# Altium footprint library UWRT_Footprint_Library_2019.PcbLib: 53 footprints (part 1 of 4)
Each footprint in its own frame and in the unit in brackets; x right, y up, seen from the top. Pads: shape width x height; smd on the part's side, far side on the other; paste and mask are expansions set on the pad; w line width, h text height; cw(c..) or ccw(c..) is an arc to the next point about the centre after c.
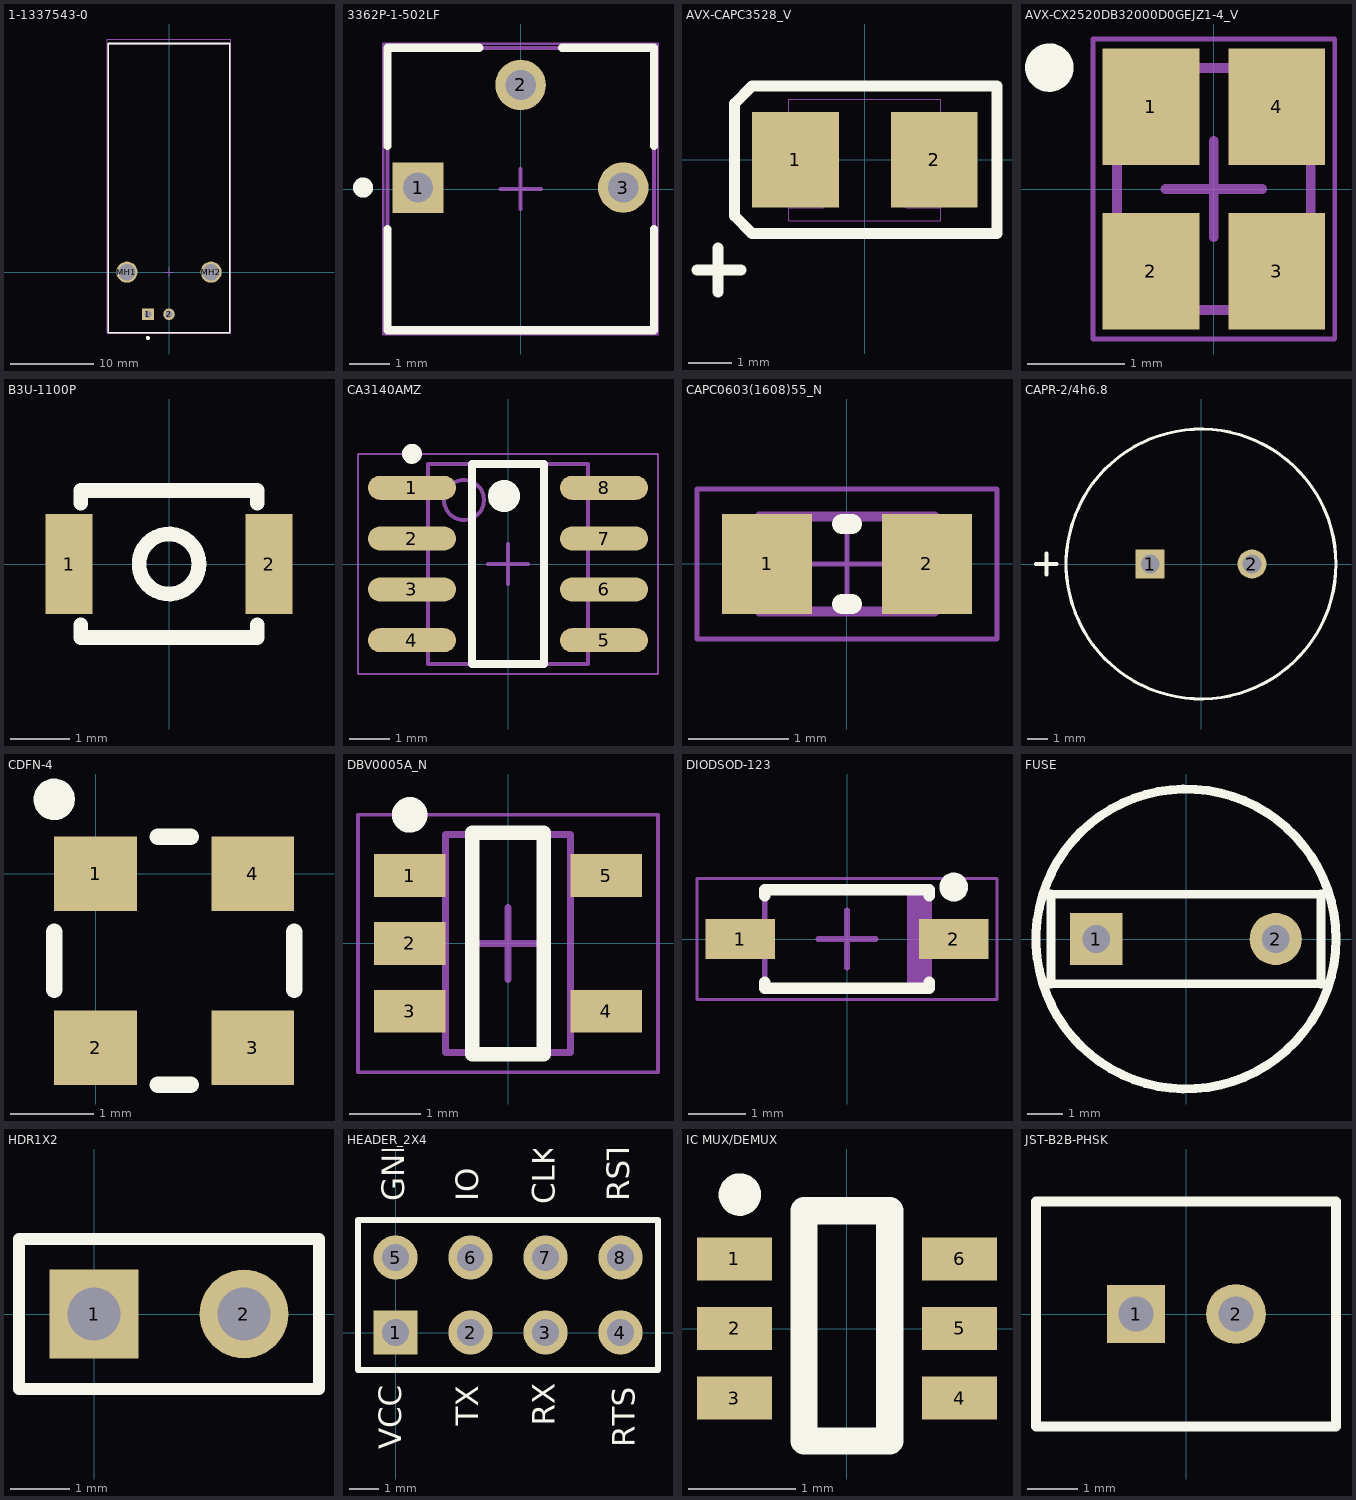
[diagram p0: the footprints below, top view; thin cyan lines are the x and y axes]

## 1-1337543-0 [mm]
pads (4):
  rect 1.4x1.4 hole 0.89: 1(-2.54,-5.08)
  round 1.4 hole 0.89: 2(0,-5.08)
  round 2.55 hole 2.01: MH1(-5.08,0) MH2(5.08,0)
Top Overlay:
  circle w0.25: c-2.54,-7.95 r0.125
  lines w0.2: -7.35,-7.3 -7.35,27.6 7.35,27.6 7.35,-7.3 -7.35,-7.3
Mechanical 13:
  lines w0.1: -7.35,-7.3 7.35,-7.3 7.35,27.6 -7.35,27.6 -7.35,-7.3
Mechanical 15:
  lines w0.05: -7.45,-7.4 7.45,-7.4 7.45,28.15 -7.45,28.15 -7.45,-7.4
  lines w0.1: -0.5,0 0.5,0 ; 0,-0.5 0,0.5
3D body "c-1-1337543-0-e-3d.stp": height 15.8, standoff -4.3, extent -7.35,-7.1 7.35,28.05

## 3362P-1-502LF [mm]
pads (3):
  rect 1.25x1.25 hole 0.75: 1(-2.54,0.035)
  round 1.25 hole 0.75: 2(0,2.575) 3(2.54,0.035)
Top Overlay:
  circle w0.25: c-3.9,0.035 r0.125
  lines w0.2: -3.3,-0.99 -3.3,-3.495 3.3,-3.495 3.3,-0.99 ; -3.3,1.06 -3.3,3.495 -1.025,3.495 ; 1.025,3.495 3.3,3.495 3.3,1.06
Mechanical 13:
  lines w0.1: -3.3,-3.495 3.3,-3.495 3.3,3.495 -3.3,3.495 -3.3,-3.495
Mechanical 15:
  lines w0.05: -3.4,-3.595 -3.4,3.595 3.4,3.595 3.4,-3.595 -3.4,-3.595
  lines w0.1: -0.5,0 0.5,0 ; 0,-0.5 0,0.5
3D body: height 4.95, standoff 0, extent -3.299,-3.494 3.299,3.494

## AVX-CAPC3528_V [mm] "SMT Capacitor, 2 Leads, Body 3.5x2.8mm"
pads (2):
  rect 2x2.2 smd: 1(-1.6,0) 2(1.6,0)
Top Overlay:
  lines w0.254: -3.87,-2.54 -2.854,-2.54 ; -3.381,-3.048 -3.381,-2.032 ; -3,-1.3 -3,1.3 -2.6,1.7 3.05,1.7 3.05,-1.7 -2.6,-1.7 -3,-1.3
Mechanical 7:
  lines w0.025: -1.748,-1.404 1.752,-1.404 1.752,1.396 -1.748,1.396 ; -1.748,-1.104 -0.948,-1.104 -0.948,1.096 -1.748,1.096 ; -1.748,-1.404 -1.748,1.396 ; 1.752,-1.104 0.952,-1.104 0.952,1.096 1.752,1.096
  text ".Comment" at -1.7,-2.2 h0.5
  text ".Designator" at -1.8,1.8 h0.5
3D body: height 1.9, standoff 0, extent -1.704,-1.539 1.763,1.537
3D body: height 0.3, standoff 0, extent 1.578,-0.658 1.803,0.768
3D body: height 0.3, standoff 0, extent -1.793,-0.665 -1.568,0.824

## AVX-CX2520DB32000D0GEJZ1-4_V [mm] "Hand Drawn, 4-Leads,Body 2.5x2mm"
height 0.55
pads (4):
  rect 1x1.2 smd: 1(-0.65,0.85) 2(-0.65,-0.85) 3(0.65,-0.85) 4(0.65,0.85)
Top Overlay:
  circle w0.25: c-1.7,1.254 r0.125
Mechanical 13:
  lines w0.1: -1,-1.25 1,-1.25 1,1.25 -1,1.25 -1,-1.25
Mechanical 15:
  lines w0.05: -1.25,-1.55 1.25,-1.55 1.25,1.55 -1.25,1.55 -1.25,-1.55
  lines w0.1: -0.5,0 0.5,0 ; 0,-0.5 0,0.5
3D body: height 0.55, standoff 0, extent -1,-1.25 1,1.25

## B3U-1100P [mm] "TACTILE SWITCH GREY"
pads (2):
  rect 0.8x1.7 smd: 1(-1.7,0) 2(1.7,0)
Top Overlay:
  circle w0.25: c0,0 r0.51
  lines w0.254: -1.5,-1.04 -1.5,-1.25 1.5,-1.25 1.5,-1.04 ; -1.5,1.04 -1.5,1.25 1.5,1.25 1.5,1.04

## CA3140AMZ [mm]
pads (8):
  oval 2.2x0.6 smd: 1(-2.4,1.905) 2(-2.4,0.635) 3(-2.4,-0.635) 4(-2.4,-1.905) 5(2.4,-1.905) 6(2.4,-0.635) 7(2.4,0.635) 8(2.4,1.905)
Top Overlay:
  circle w0.25: c-2.4,2.755 r0.125
  circle w0.4: c-0.1,1.7 r0.2
  lines w0.2: -0.9,-2.5 -0.9,2.5 0.9,2.5 0.9,-2.5 -0.9,-2.5
Mechanical 13:
  circle w0.1: c-1.1,1.6 r0.5
  lines w0.1: -2,-2.5 -2,2.5 2,2.5 2,-2.5 -2,-2.5
Mechanical 15:
  lines w0.05: -3.75,-2.75 -3.75,2.75 3.75,2.75 3.75,-2.75 -3.75,-2.75
  lines w0.1: -0.5,0 0.5,0 ; 0,-0.5 0,0.5
3D body: height 1.75, standoff 0.1, extent -2,-2.5 2,2.5

## CAPC0603(1608)55_N [mm] "Chip Capacitor, Body 1.6x0.8mm, Height 0.55mm, IPC Medium Density"
height 0.55
pads (2):
  rect 0.9x1 smd: 1(-0.8,0) 2(0.8,0)
Top Overlay:
  lines w0.2: -0.05,-0.4 0.05,-0.4 ; -0.05,0.4 0.05,0.4
Mechanical 13:
  lines w0.1: -0.875,-0.475 -0.875,0.475 0.875,0.475 0.875,-0.475 -0.875,-0.475
Mechanical 15:
  lines w0.05: -0.475,0 0.475,0 ; 0,-0.475 0,0.475 ; -1.5,-0.75 -1.5,0.75 1.5,0.75 1.5,-0.75 -1.5,-0.75
3D body: height 0.55, standoff 0, extent -0.525,-0.475 0.525,0.475
3D body: height 0.55, standoff 0, extent -0.875,-0.475 -0.525,0.475
3D body: height 0.55, standoff 0, extent 0.525,-0.475 0.875,0.475

## CAPR-2/4h6.8 [mil] "ECA-1VM102B"
pads (2):
  rect 56x56 hole 36: 1(-98.5,0)
  round 56 hole 36: 2(98.5,0)
Top Overlay:
  circle w6: c0,0 r261
  lines w7.87: -319.14,0 -279.14,0 ; -299.14,-20 -299.14,20

## CDFN-4 [mm]
pads (4):
  rect 1x0.9 smd: 1(0,0) 2(0,-2.1) 3(1.9,-2.1) 4(1.9,0)
Top Overlay:
  circle w0.25: c-0.5,0.9 r0.125
  lines w0.2: -0.5,-1.4 -0.5,-0.7 ; 0.75,-2.55 1.15,-2.55 ; 0.75,0.45 1.15,0.45 ; 2.4,-1.4 2.4,-0.7

## DBV0005A_N [mm] "SOT23, 5-Leads, Body 3.05x1.75mm, Pitch 0.95mm, IPC Medium Density"
height 1.45
pads (5):
  rect 1x0.6 smd: 1(-1.375,0.95) 2(-1.375,0) 3(-1.375,-0.95) 4(1.375,-0.95) 5(1.375,0.95)
Top Overlay:
  circle w0.25: c-1.375,1.8 r0.125
  lines w0.2: -0.5,-1.55 0.5,-1.55 0.5,1.55 -0.5,1.55 -0.5,-1.55
Mechanical 13:
  lines w0.1: -0.875,-1.525 -0.875,1.525 0.875,1.525 0.875,-1.525 -0.875,-1.525
Mechanical 15:
  lines w0.05: -2.1,-1.8 -2.1,1.8 2.1,1.8 2.1,-1.8 -2.1,-1.8
  lines w0.1: -0.5,0 0.5,0 ; 0,-0.5 0,0.5
3D body "DBV0005AaksMF05A.stp": height 1.08, standoff -0.01, extent -1.422,-1.461 1.422,1.46

## DIODSOD-123 [mm] "SOD-123, 2-Leads, Body 2.85x1.7mm (max), Pitch 3.7mm"
height 1.45
pads (2):
  rect 1.2x0.7 smd: 1(-1.85,0) 2(1.85,0)
Top Overlay:
  circle w0.25: c1.85,0.9 r0.125
  lines w0.2: -1.425,-0.75 -1.425,-0.85 1.425,-0.85 1.425,-0.75 ; -1.425,0.75 -1.425,0.85 1.425,0.85 1.425,0.75
Mechanical 13:
  rectangle: 1.042,-0.85 1.425,0.85
  lines w0.1: -1.425,-0.85 -1.425,0.85 1.425,0.85 1.425,-0.85 -1.425,-0.85
Mechanical 15:
  lines w0.05: -2.6,-1.05 -2.6,1.05 2.6,1.05 2.6,-1.05 -2.6,-1.05
  lines w0.1: -0.5,0 0.5,0 ; 0,-0.5 0,0.5
3D body: height 1.45, standoff 0, extent -1.425,-0.85 1.425,0.85

## FUSE [mm] "FUSE HOLDER RADIAL 250V 6.3A PCB"
pads (2):
  rect 1.48x1.48 / inner round 1.524 / far side round 1.2 hole 0.78: 1(-2.54,0)
  round 1.48 / inner round 1.524 / far side round 1.2 hole 0.78: 2(2.54,0)
Top Overlay:
  circle w0.254: c0,0 r4.25
  lines w0.25: -3.825,-1.28 -3.825,1.28 ; -3.809,-1.27 3.825,-1.27 ; -3.809,1.27 3.825,1.27 ; 3.825,-1.28 3.825,1.28

## HDR1X2 [mm] "Connector; Header; 2 Position"
pads (2):
  rect 1.5x1.5 hole 0.9: 1(0,0)
  round 1.5 hole 0.9: 2(2.54,0)
Top Overlay:
  lines w0.2: -1.27,-1.27 3.81,-1.27 3.81,1.27 -1.27,1.27 -1.27,-1.27

## HEADER_2X4 [mm]
pads (8):
  rect 1.5x1.5 hole 0.9: 1(0,0)
  round 1.5 hole 0.9: 2(2.54,0) 3(5.08,0) 4(7.62,0) 5(0,2.54) 6(2.54,2.54) 7(5.08,2.54) 8(7.62,2.54)
Top Overlay:
  lines w0.2: -1.27,-1.27 8.89,-1.27 8.89,3.81 -1.27,3.81 -1.27,-1.27
  text "GND" at 0.3,4.446 h0.76
  text "VCC" at 0.2,-3.954 h0.76
  text "RST" at 7.92,4.446 h0.76
  text "CLK" at 5.4,4.346 h0.76
  text "IO" at 2.8,4.446 h0.76
  text "RTS" at 8.1,-3.879 h0.76
  text "RX" at 5.4,-3.152 h0.76
  text "TX" at 2.8,-3.152 h0.76

## IC MUX/DEMUX [mm]
pads (6):
  rect 0.7x0.4 smd: 1(-1.05,0.65) 2(-1.05,0) 3(-1.05,-0.65) 4(1.05,-0.65) 5(1.05,0) 6(1.05,0.65)
Top Overlay:
  circle w0.254: c-1,1.25 r0.071
  lines w0.254: -0.4,-1.05 0.4,-1.05 0.4,1.1 -0.4,1.1 -0.4,-1.05
3D body "74LVC1G3157GW,125.stp": height 1.11, standoff 0.01, extent -1.05,-1 1.05,1

## JST-B2B-PHSK [mm]
pads (2):
  rect 1.162x1.162 / inner rect 1.524x1.524 / far side rect 1.162x1.162 hole 0.7: 1(-1,0)
  round 1.2 / inner round 1.524 / far side round 1.2 hole 0.7: 2(1,0)
Top Overlay:
  lines w0.2: -3,-2.25 3,-2.25 3,2.25 -3,2.25 -3,-2.25